# Altium schematic symbol library 418 121 160 8xx.SchLib: 11 symbols
Pins are listed as number, name and electrical type; pins without a type are passive.

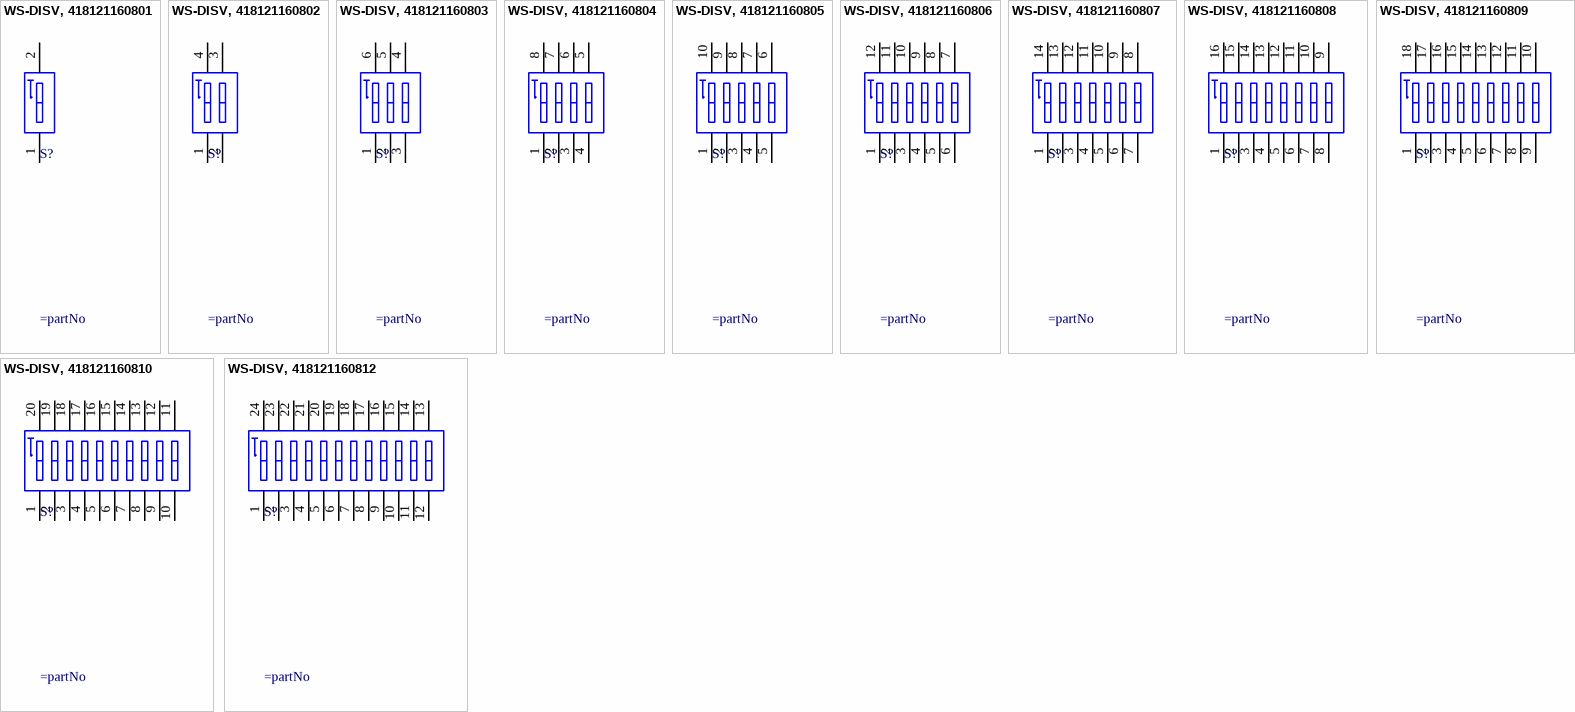
[diagram p0: symbols WS-DISV, 418121160801 to WS-DISV, 418121160812]

## WS-DISV, 418121160801
designator S?
WS-DISV 2.54 mm small compact SMD flat actuator with top tape; Manufacturer: Wurth Elektronik; Part No.: 418121160801; ComponentLink1 Description: Manufacturer; ComponentLink2 Description: Datasheet; Pole: 01; Created Date: Dec.2015; ComponentLink1URL: http://www.we-online.com; ComponentLink2URL: http://katalog.we-online.de/em/datasheet/4181211608xx.pdf; Created by: Baojun Chen
footprint 418121160801 (01p, 2.54mm Pitch, Horizontal, IC Type, SMT, flat Actuator, black, with Tape, T&R)
pins: 1, 2

## WS-DISV, 418121160802
designator S?
WS-DISV 2.54 mm small compact SMD flat actuator with top tape; Manufacturer: Wurth Elektronik; Part No.: 418121160802; ComponentLink1 Description: Manufacturer; ComponentLink2 Description: Datasheet; Pole: 02; Created Date: Dec.2015; ComponentLink1URL: http://www.we-online.com; ComponentLink2URL: http://katalog.we-online.de/em/datasheet/4181211608xx.pdf; Created by: Baojun Chen
footprint 418121160802 (02p, 2.54mm Pitch, Horizontal, IC Type, SMT, flat Actuator, black, with Tape, T&R)
pins: 1, 2, 3, 4

## WS-DISV, 418121160803
designator S?
WS-DISV 2.54 mm small compact SMD flat actuator with top tape; Manufacturer: Wurth Elektronik; Part No.: 418121160803; ComponentLink1 Description: Manufacturer; ComponentLink2 Description: Datasheet; Pole: 03; Created Date: Dec.2015; ComponentLink1URL: http://www.we-online.com; ComponentLink2URL: http://katalog.we-online.de/em/datasheet/4181211608xx.pdf; Created by: Baojun Chen
footprint 418121160803 (03p, 2.54mm Pitch, Horizontal, IC Type, SMT, flat Actuator, black, with Tape, T&R)
pins: 1, 2, 3, 4, 5, 6

## WS-DISV, 418121160804
designator S?
WS-DISV 2.54 mm small compact SMD flat actuator with top tape; Manufacturer: Wurth Elektronik; Part No.: 418121160804; ComponentLink1 Description: Manufacturer; ComponentLink2 Description: Datasheet; Pole: 04; Created Date: Dec.2015; ComponentLink1URL: http://www.we-online.com; ComponentLink2URL: http://katalog.we-online.de/em/datasheet/4181211608xx.pdf; Created by: Baojun Chen
footprint 418121160804 (04p, 2.54mm Pitch, Horizontal, IC Type, SMT, flat Actuator, black, with Tape, T&R)
pins: 1, 2, 3, 4, 5, 6, 7, 8

## WS-DISV, 418121160805
designator S?
WS-DISV 2.54 mm small compact SMD flat actuator with top tape; Manufacturer: Wurth Elektronik; Part No.: 418121160805; ComponentLink1 Description: Manufacturer; ComponentLink2 Description: Datasheet; Pole: 05; Created Date: Dec.2015; ComponentLink1URL: http://www.we-online.com; ComponentLink2URL: http://katalog.we-online.de/em/datasheet/4181211608xx.pdf; Created by: Baojun Chen
footprint 418121160805 (05p, 2.54mm Pitch, Horizontal, IC Type, SMT, flat Actuator, black, with Tape, T&R)
pins: 1, 2, 3, 4, 5, 6, 7, 8, 9, 10

## WS-DISV, 418121160806
designator S?
WS-DISV 2.54 mm small compact SMD flat actuator with top tape; Manufacturer: Wurth Elektronik; Part No.: 418121160806; ComponentLink1 Description: Manufacturer; ComponentLink2 Description: Datasheet; Pole: 06; Created Date: Dec.2015; ComponentLink1URL: http://www.we-online.com; ComponentLink2URL: http://katalog.we-online.de/em/datasheet/4181211608xx.pdf; Created by: Baojun Chen
footprint 418121160806 (06p, 2.54mm Pitch, Horizontal, IC Type, SMT, flat Actuator, black, with Tape, T&R)
pins: 1, 2, 3, 4, 5, 6, 7, 8, 9, 10, 11, 12

## WS-DISV, 418121160807
designator S?
WS-DISV 2.54 mm small compact SMD flat actuator with top tape; Manufacturer: Wurth Elektronik; Part No.: 418121160807; ComponentLink1 Description: Manufacturer; ComponentLink2 Description: Datasheet; Pole: 07; Created Date: Dec.2015; ComponentLink1URL: http://www.we-online.com; ComponentLink2URL: http://katalog.we-online.de/em/datasheet/4181211608xx.pdf; Created by: Baojun Chen
footprint 418121160807 (07p, 2.54mm Pitch, Horizontal, IC Type, SMT, flat Actuator, black, with Tape, T&R)
pins: 1, 2, 3, 4, 5, 6, 7, 8, 9, 10, 11, 12, 13, 14

## WS-DISV, 418121160808
designator S?
WS-DISV 2.54 mm small compact SMD flat actuator with top tape; Manufacturer: Wurth Elektronik; Part No.: 418121160808; ComponentLink1 Description: Manufacturer; ComponentLink2 Description: Datasheet; Pole: 08; Created Date: Dec.2015; ComponentLink1URL: http://www.we-online.com; ComponentLink2URL: http://katalog.we-online.de/em/datasheet/4181211608xx.pdf; Created by: Baojun Chen
footprint 418121160808 (08p, 2.54mm Pitch, Horizontal, IC Type, SMT, flat Actuator, black, with Tape, T&R)
pins: 1, 2, 3, 4, 5, 6, 7, 8, 9, 10, 11, 12, 13, 14, 15, 16

## WS-DISV, 418121160809
designator S?
WS-DISV 2.54 mm small compact SMD flat actuator with top tape; Manufacturer: Wurth Elektronik; Part No.: 418121160809; ComponentLink1 Description: Manufacturer; ComponentLink2 Description: Datasheet; Pole: 09; Created Date: Dec.2015; ComponentLink1URL: http://www.we-online.com; ComponentLink2URL: http://katalog.we-online.de/em/datasheet/4181211608xx.pdf; Created by: Baojun Chen
footprint 418121160809 (09p, 2.54mm Pitch, Horizontal, IC Type, SMT, flat Actuator, black, with Tape, T&R)
pins: 1, 2, 3, 4, 5, 6, 7, 8, 9, 10, 11, 12, 13, 14, 15, 16, 17, 18

## WS-DISV, 418121160810
designator S?
WS-DISV 2.54 mm small compact SMD flat actuator with top tape; Manufacturer: Wurth Elektronik; Part No.: 418121160810; ComponentLink1 Description: Manufacturer; ComponentLink2 Description: Datasheet; Pole: 10; Created Date: Dec.2015; ComponentLink1URL: http://www.we-online.com; ComponentLink2URL: http://katalog.we-online.de/em/datasheet/4181211608xx.pdf; Created by: Baojun Chen
footprint 418121160810 (10p, 2.54mm Pitch, Horizontal, IC Type, SMT, flat Actuator, black, with Tape, T&R)
pins: 1, 2, 3, 4, 5, 6, 7, 8, 9, 10, 11, 12, 13, 14, 15, 16, 17, 18, 19, 20

## WS-DISV, 418121160812
designator S?
WS-DISV 2.54 mm small compact SMD flat actuator with top tape; Manufacturer: Wurth Elektronik; Part No.: 418121160812; ComponentLink1 Description: Manufacturer; ComponentLink2 Description: Datasheet; Pole: 12; Created Date: Dec.2015; ComponentLink1URL: http://www.we-online.com; ComponentLink2URL: http://katalog.we-online.de/em/datasheet/4181211608xx.pdf; Created by: Baojun Chen
footprint 418121160812 (12p, 2.54mm Pitch, Horizontal, IC Type, SMT, flat Actuator, black, with Tape, T&R)
pins: 1, 2, 3, 4, 5, 6, 7, 8, 9, 10, 11, 12, 13, 14, 15, 16, 17, 18, 19, 20, 21, 22, 23, 24